# EAGLE library part BC56-12YWA (library cTechnologies_optoElements)
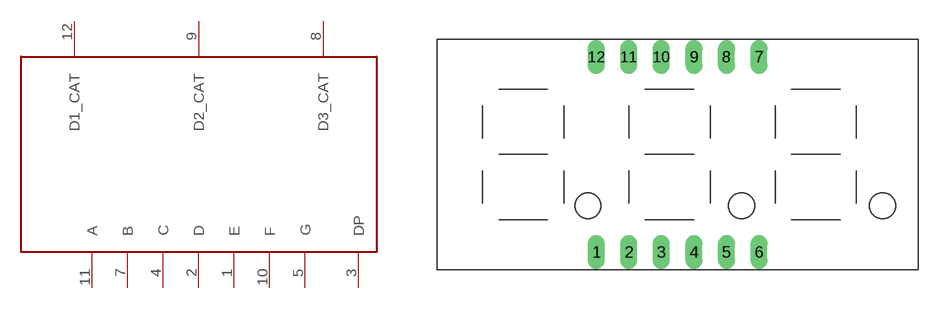
[diagram p1: symbol with the pads of 3DIGIT_LED; footprint 3DIGIT_LED]

Designator prefix -

## BC56-12YWA  [3DIGIT_LED]
1  E
2  D
3  DP
4  C
5  G
7  B
8  D3_CAT
9  D2_CAT
10  F
11  A
12  D1_CAT

## Footprint 3DIGIT_LED (pad centres in mm)
drill 0.8 long: 1 -6.35,-7.62; 2 -3.81,-7.62; 3 -1.27,-7.62; 4 1.27,-7.62; 5 3.81,-7.62; 6 6.35,-7.62; 7 6.35,7.62; 8 3.81,7.62; 9 1.27,7.62; 10 -1.27,7.62; 11 -3.81,7.62; 12 -6.35,7.62